# EAGLE library part DF40C-60D?-0.4V (library GTA04b7)
Hirose 2x30 pin B2B connector
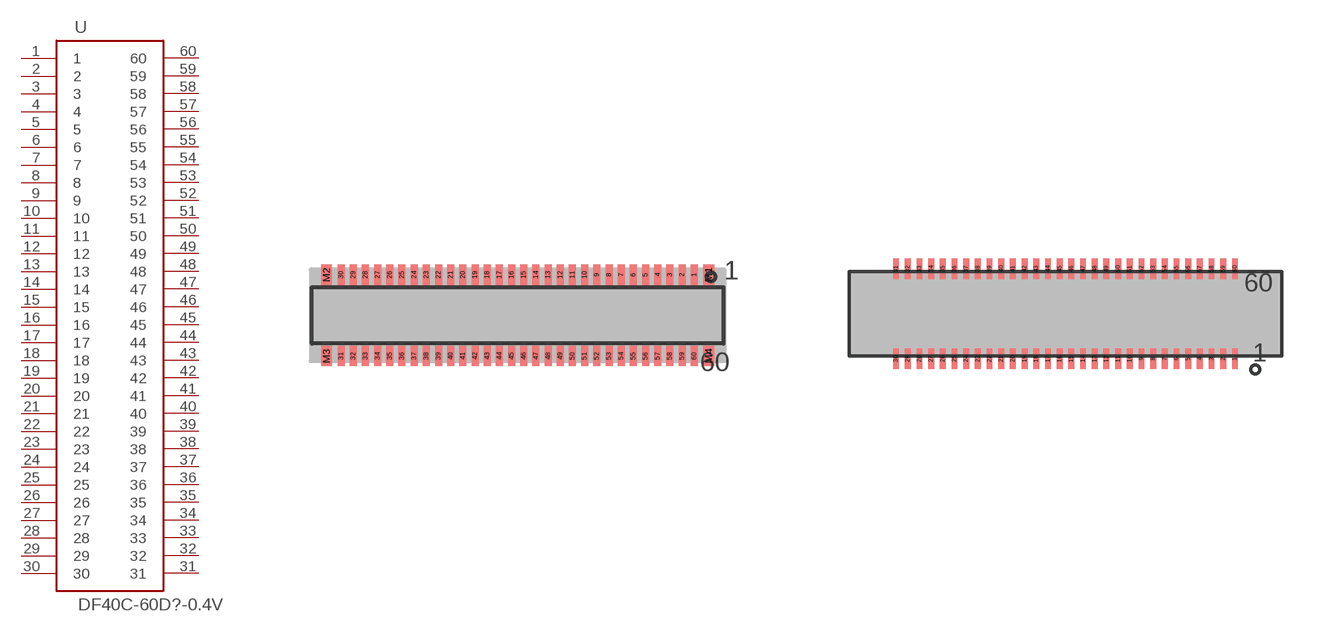
[diagram p14: symbol with the pads of DF40C-60DP-0.4V; footprints DF40C-60DP-0.4V, DF40C-60DS-0.4V]

Designator prefix -

## DF40C-60DP-0.4V  [DF40C-60DP-0.4V]
1  1
2  2
3  3
4  4
5  5
6  6
7  7
8  8
9  9
10  10
11  11
12  12
13  13
14  14
15  15
16  16
17  17
18  18
19  19
20  20
21  21
22  22
23  23
24  24
25  25
26  26
27  27
28  28
29  29
30  30
31  31
32  32
33  33
34  34
35  35
36  36
37  37
38  38
39  39
40  40
41  41
42  42
43  43
44  44
45  45
46  46
47  47
48  48
49  49
50  50
51  51
52  52
53  53
54  54
55  55
56  56
57  57
58  58
59  59
60  60

## DF40C-60DS-0.4V  [DF40C-60DS-0.4V]
Pads as for DF40C-60DP-0.4V

## Footprint DF40C-60DP-0.4V (pad centres in mm)
Hirose B2B header 2x30 pin
smd 0.23 x 0.66: 1 5.8,1.335; 2 5.4,1.335; 3 5,1.335; 4 4.6,1.335; 5 4.2,1.335; 6 3.8,1.335; 7 3.4,1.335; 8 3,1.335; 9 2.6,1.335; 10 2.2,1.335; 11 1.8,1.335; 12 1.4,1.335; 13 1,1.335; 14 0.6,1.335; 15 0.2,1.335; 16 -0.2,1.335; 17 -0.6,1.335; 18 -1,1.335; 19 -1.4,1.335; 20 -1.8,1.335; 21 -2.2,1.335; 22 -2.6,1.335; 23 -3,1.335; 24 -3.4,1.335; 25 -3.8,1.335; 26 -4.2,1.335; 27 -4.6,1.335; 28 -5,1.335; 29 -5.4,1.335; 30 -5.8,1.335; 31 -5.8,-1.335; 32 -5.4,-1.335; 33 -5,-1.335; 34 -4.6,-1.335; 35 -4.2,-1.335; 36 -3.8,-1.335; 37 -3.4,-1.335; 38 -3,-1.335; 39 -2.6,-1.335; 40 -2.2,-1.335; 41 -1.8,-1.335; 42 -1.4,-1.335; 43 -1,-1.335; 44 -0.6,-1.335; 45 -0.2,-1.335; 46 0.2,-1.335; 47 0.6,-1.335; 48 1,-1.335; 49 1.4,-1.335; 50 1.8,-1.335; 51 2.2,-1.335; 52 2.6,-1.335; 53 3,-1.335; 54 3.4,-1.335; 55 3.8,-1.335; 56 4.2,-1.335; 57 4.6,-1.335; 58 5,-1.335; 59 5.4,-1.335; 60 5.8,-1.335
smd 0.35 x 0.66: M1 6.275,1.335; M2 -6.275,1.335; M3 -6.275,-1.335; M4 6.275,-1.335

## Footprint DF40C-60DS-0.4V (pad centres in mm)
DF40C-60DS-0.4V (1.5 or 2 mm stacking height)
smd 0.2 x 0.7: 1 5.8,-1.54; 2 5.4,-1.54; 3 5,-1.54; 4 4.6,-1.54; 5 4.2,-1.54; 6 3.8,-1.54; 7 3.4,-1.54; 8 3,-1.54; 9 2.6,-1.54; 10 2.2,-1.54; 11 1.8,-1.54; 12 1.4,-1.54; 13 1,-1.54; 14 0.6,-1.54; 15 0.2,-1.54; 16 -0.2,-1.54; 17 -0.6,-1.54; 18 -1,-1.54; 19 -1.4,-1.54; 20 -1.8,-1.54; 21 -2.2,-1.54; 22 -2.6,-1.54; 23 -3,-1.54; 24 -3.4,-1.54; 25 -3.8,-1.54; 26 -4.2,-1.54; 27 -4.6,-1.54; 28 -5,-1.54; 29 -5.4,-1.54; 30 -5.8,-1.54; 31 -5.8,1.54; 32 -5.4,1.54; 33 -5,1.54; 34 -4.6,1.54; 35 -4.2,1.54; 36 -3.8,1.54; 37 -3.4,1.54; 38 -3,1.54; 39 -2.6,1.54; 40 -2.2,1.54; 41 -1.8,1.54; 42 -1.4,1.54; 43 -1,1.54; 44 -0.6,1.54; 45 -0.2,1.54; 46 0.2,1.54; 47 0.6,1.54; 48 1,1.54; 49 1.4,1.54; 50 1.8,1.54; 51 2.2,1.54; 52 2.6,1.54; 53 3,1.54; 54 3.4,1.54; 55 3.8,1.54; 56 4.2,1.54; 57 4.6,1.54; 58 5,1.54; 59 5.4,1.54; 60 5.8,1.54